# Altium footprint library M.2 1216 Stencil.PcbLib: 1 footprints
Each footprint in its own frame and in the unit in brackets; x right, y up, seen from the top. Pads: shape width x height; smd on the part's side, far side on the other; paste and mask are expansions set on the pad; w line width, h text height; cw(c..) or ccw(c..) is an arc to the next point about the centre after c.
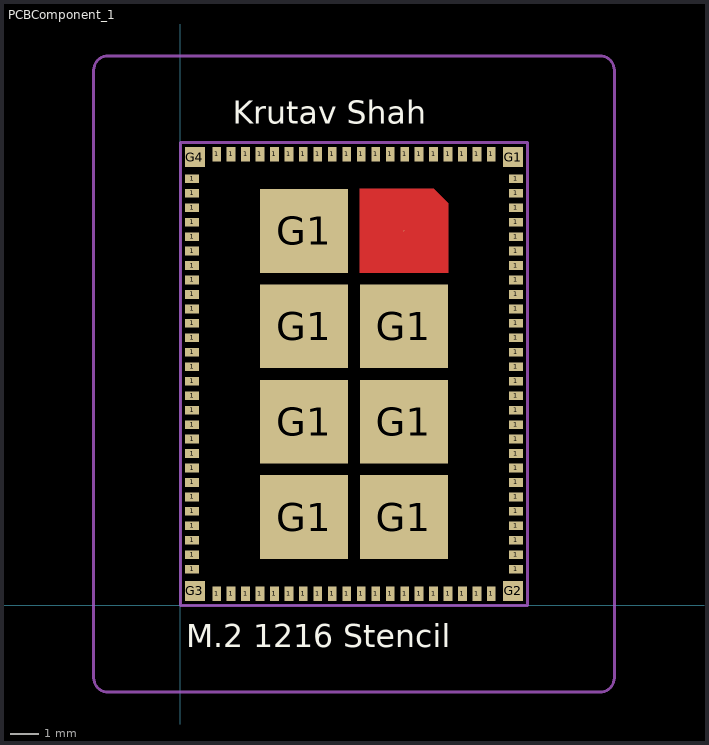
[diagram p0: the footprint, top view; thin cyan lines are the x and y axes]

## PCBComponent_1 [mm]
pads (108):
  rect 0.5x0.3 smd mask+0.05: 1(0.4,1.25) 1(0.4,1.75) 1(0.4,2.25) 1(0.4,2.75) 1(0.4,3.25) 1(0.4,3.75) 1(0.4,4.25) 1(0.4,4.75) 1(0.4,5.25) 1(0.4,5.75) 1(0.4,6.25) 1(0.4,6.75) 1(0.4,7.25) 1(0.4,7.75) 1(0.4,8.25) 1(0.4,8.75) 1(0.4,9.25) 1(0.4,9.75) 1(0.4,10.25) 1(0.4,10.75) 1(0.4,11.25) 1(0.4,11.75) 1(0.4,12.25) 1(0.4,12.75) 1(0.4,13.25) 1(0.4,13.75) 1(0.4,14.25) 1(0.4,14.75) 1(11.6,1.25) 1(11.6,1.75) 1(11.6,2.25) 1(11.6,2.75) 1(11.6,3.25) 1(11.6,3.75) 1(11.6,4.25) 1(11.6,4.75) 1(11.6,5.25) 1(11.6,5.75) 1(11.6,6.25) 1(11.6,6.75) 1(11.6,7.25) 1(11.6,7.75) 1(11.6,8.25) 1(11.6,8.75) 1(11.6,9.25) 1(11.6,9.75) 1(11.6,10.25) 1(11.6,10.75) 1(11.6,11.25) 1(11.6,11.75) 1(11.6,12.25) 1(11.6,12.75) 1(11.6,13.25) 1(11.6,13.75) 1(11.6,14.25) 1(11.6,14.75)
  rect 0.3x0.5 smd mask+0.05: 1(1.25,15.6) 1(1.25,0.4) 1(1.75,0.4) 1(1.75,15.6) 1(2.25,15.6) 1(2.25,0.4) 1(2.75,0.4) 1(2.75,15.6) 1(3.25,15.6) 1(3.25,0.4) 1(3.75,15.6) 1(3.75,0.4) 1(4.25,0.4) 1(4.25,15.6) 1(4.75,15.6) 1(4.75,0.4) 1(5.25,0.4) 1(5.25,15.6) 1(5.75,15.6) 1(5.75,0.4) 1(6.25,15.6) 1(6.25,0.4) 1(6.75,0.4) 1(6.75,15.6) 1(7.25,15.6) 1(7.25,0.4) 1(7.75,0.4) 1(7.75,15.6) 1(8.25,15.6) 1(8.25,0.4) 1(8.75,15.6) 1(8.75,0.4) 1(9.25,0.4) 1(9.25,15.6) 1(9.75,15.6) 1(9.75,0.4) 1(10.25,0.4) 1(10.25,15.6) 1(10.75,15.6) 1(10.75,0.4)
  rect 3.05x2.9 smd mask+0.05: G1(4.275,3.05) G1(4.275,6.35) G1(4.275,9.65) G1(4.275,12.95) G1(7.725,3.05) G1(7.725,6.35) G1(7.725,9.65)
  round 0.025 smd mask+0.05: G1(7.725,12.95)
  rect 0.7x0.7 smd mask+0.05: G1(11.5,15.5) G2(11.5,0.5) G3(0.5,0.5) G4(0.5,15.5)
Top Layer:
  region: 8.75,14.4 9.25,13.9 9.25,11.5 6.2,11.5 6.2,14.4
Top Overlay:
  text "M.2 1216 Stencil" at 0.202,-1.45 h0.8
  text "Krutav Shah" at 1.801,16.65 h0.8
Mechanical 1:
  lines w0.1: -3,-2.5 ccw(c-2.5,-2.5) -2.5,-3 14.5,-3 ccw(c14.5,-2.5) 15,-2.5 15,18.5 ccw(c14.5,18.5) 14.5,19 -2.5,19 ccw(c-2.5,18.5) -3,18.5 -3,-2.5 ; 0,0 12,0 12,16 0,16 0,0